# Altium footprint library burr-brown (2).PCBLIB: 61 footprints (part 2 of 4)
Each footprint in its own frame and in the unit in brackets; x right, y up, seen from the top. Pads: shape width x height; smd on the part's side, far side on the other; paste and mask are expansions set on the pad; w line width, h text height; cw(c..) or ccw(c..) is an arc to the next point about the centre after c.
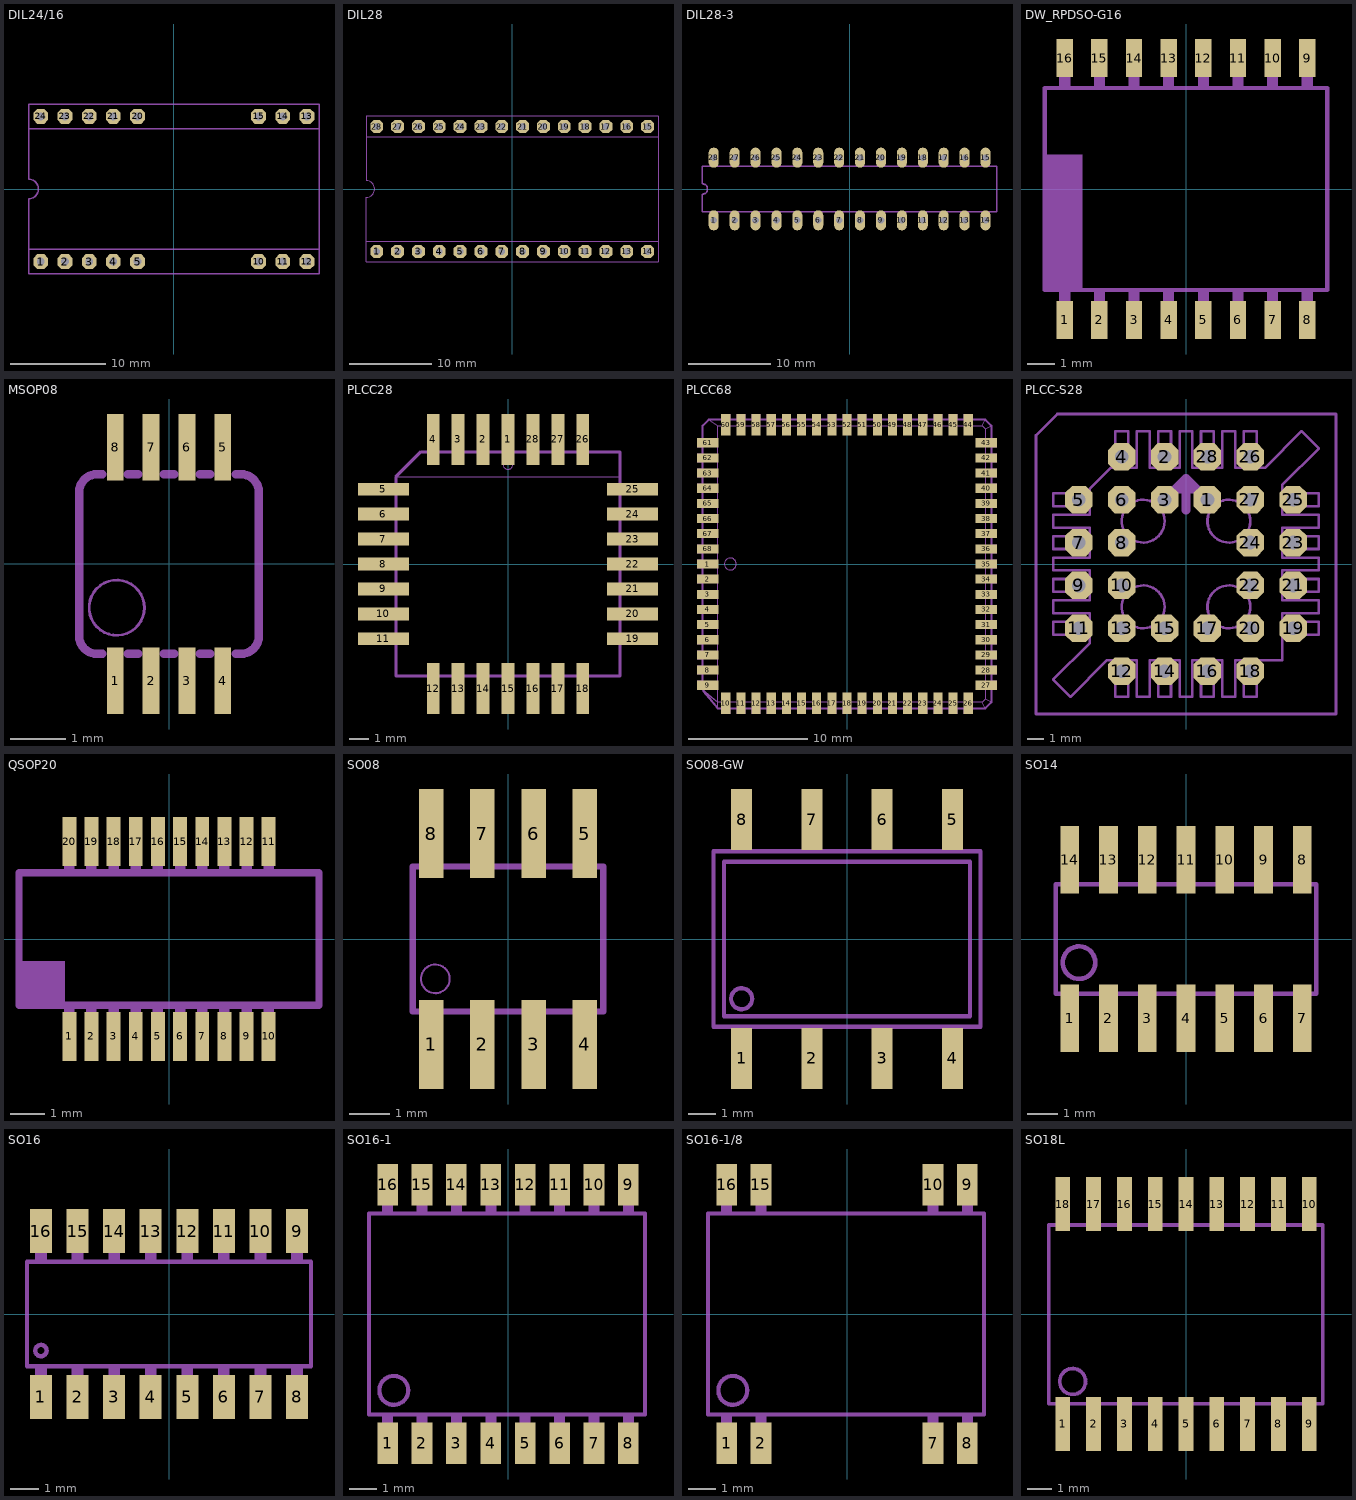
[diagram p1: the footprints below, top view; thin cyan lines are the x and y axes]

## DIL24/16 [mil]
pads (16):
  oct 61x61 hole 32: 1(-550,-300) 2(-450,-300) 3(-350,-300) 4(-250,-300) 5(-150,-300) 10(350,-300) 11(450,-300) 12(550,-300) 13(550,300) 14(450,300) 15(350,300) 20(-150,300) 21(-250,300) 22(-350,300) 23(-450,300) 24(-550,300)
Mechanical 2:
  lines w6: -600,-250 -600,-350 600,-350 600,-250 ; -600,-250 -600,-40 ccw(c-600,0) -600,40 -600,250 ; -600,-250 600,-250 ; -600,250 -600,350 600,350 600,250 ; -600,250 600,250 ; 600,-250 600,250

## DIL28 [mil]
pads (28):
  oct 61x61 hole 32: 1(-650,-300) 2(-550,-300) 3(-450,-300) 4(-350,-300) 5(-250,-300) 6(-150,-300) 7(-50,-300) 8(50,-300) 9(150,-300) 10(250,-300) 11(350,-300) 12(450,-300) 13(550,-300) 14(650,-300) 15(650,300) 16(550,300) 17(450,300) 18(350,300) 19(250,300) 20(150,300) 21(50,300) 22(-50,300) 23(-150,300) 24(-250,300) 25(-350,300) 26(-450,300) 27(-550,300) 28(-650,300)
Mechanical 2:
  lines w6: -700,-250 -700,-350 700,-350 700,-250 ; -700,-250 700,-250 ; -700,-250 -700,-40 ccw(c-700,0) -700,40 -700,250 ; -700,250 -700,350 700,350 700,250 ; -700,250 700,250 ; 700,-250 700,250

## DIL28-3 [mil]
pads (28):
  oval 48x96 hole 32: 1(-650,-150) 2(-550,-150) 3(-450,-150) 4(-350,-150) 5(-250,-150) 6(-150,-150) 7(-50,-150) 8(50,-150) 9(150,-150) 10(250,-150) 11(350,-150) 12(450,-150) 13(550,-150) 14(650,-150) 15(650,150) 16(550,150) 17(450,150) 18(350,150) 19(250,150) 20(150,150) 21(50,150) 22(-50,150) 23(-150,150) 24(-250,150) 25(-350,150) 26(-450,150) 27(-550,150) 28(-650,150)
Mechanical 2:
  lines w6: -705,-110 -705,-25 ccw(c-705,0) -705,25 -705,110 705,110 705,-110 -705,-110

## DW_RPDSO-G16 [mil]
pads (16):
  rect 23.62x55.12 smd: 1(-175,-188.98) 2(-125,-188.98) 3(-75,-188.98) 4(-25,-188.98) 5(25,-188.98) 6(75,-188.98) 7(125,-188.98) 8(175,-188.98) 9(175,188.98) 10(125,188.98) 11(75,188.98) 12(25,188.98) 13(-25,188.98) 14(-75,188.98) 15(-125,188.98) 16(-175,188.98)
Mechanical 2:
  rectangle: -203.74,-144.69 -149.61,50
  lines w6: -203.94,-145.98 203.94,-145.98 203.94,145.98 -203.94,145.98 -203.94,-145.98
Mechanical 18:
  rectangle: 167,-209.45 183,-148
  rectangle: 117,-209.45 133,-148
  rectangle: 67,-209.45 83,-148
  rectangle: 17,-209.45 33,-148
  rectangle: -33,-209.45 -17,-148
  rectangle: -83,-209.45 -67,-148
  rectangle: -133,-209.45 -117,-148
  rectangle: -183,-209.45 -167,-148
  region: -167,209.45 -183,209.45 -183,148 -167,148
  region: -117,209.45 -133,209.45 -133,148 -117,148
  region: -67,209.45 -83,209.45 -83,148 -67,148
  region: -17,209.45 -33,209.45 -33,148 -17,148
  region: 33,209.45 17,209.45 17,148 33,148
  region: 83,209.45 67,209.45 67,148 83,148
  region: 133,209.45 117,209.45 117,148 133,148
  region: 183,209.45 167,209.45 167,148 183,148

## MSOP08 [mil]
pads (8):
  rect 11.81x47.24 smd: 1(-38.43,-83.19) 2(-12.83,-83.19) 3(12.76,-83.19) 4(38.35,-83.19) 5(38.35,83.15) 6(12.76,83.15) 7(-12.83,83.15) 8(-38.43,83.15)
Mechanical 2:
  circle w2: c-37.23,-31.13 r19.69
  lines w6: -52.8,-64.02 -47.4,-64.02 ; -51.22,-64.02 cw(c-51.22,-51.22) -64.02,-51.22 -64.02,51.14 cw(c-51.22,51.14) -51.22,63.94 -47.4,63.94 ; -29.41,-64.02 -21.81,-64.02 ; -29.41,63.94 -21.81,63.94 ; -3.82,-64.02 3.78,-64.02 ; -3.82,63.94 3.78,63.94 ; 21.77,-64.02 29.37,-64.02 ; 21.77,63.94 29.37,63.94 ; 47.36,-64.02 51.14,-64.02 ccw(c51.14,-51.22) 63.94,-51.22 63.94,51.14 ccw(c51.14,51.14) 51.14,63.94 47.36,63.94
Mechanical 18:
  rectangle: -43.21,63.95 -33.61,92.74
  rectangle: -17.62,63.95 -8.02,92.74
  rectangle: 7.97,63.95 17.57,92.74
  rectangle: 33.56,63.95 43.16,92.74
  rectangle: -43.21,-92.79 -33.61,-64
  rectangle: -17.62,-92.79 -8.02,-64
  rectangle: 7.97,-92.79 17.57,-64
  rectangle: 33.56,-92.79 43.16,-64

## PLCC28 [mil]
pads (28):
  rect 26x102 smd: 1(0,250) 2(-50,250) 3(-100,250) 4(-150,250) 12(-150,-250) 13(-100,-250) 14(-50,-250) 15(0,-250) 16(50,-250) 17(100,-250) 18(150,-250) 26(150,250) 27(100,250) 28(50,250)
  rect 102x26 smd: 5(-250,150) 6(-250,100) 7(-250,50) 8(-250,0) 9(-250,-50) 10(-250,-100) 11(-250,-150) 19(250,-150) 20(250,-100) 21(250,-50) 22(250,0) 23(250,50) 24(250,100) 25(250,150)
Mechanical 2:
  lines w2: -225,175 225,175
  lines w6: -225,-165 -225,-225 -165,-225 ; -225,-135 -225,-115 ; -225,-85 -225,-65 ; -225,-35 -225,-15 ; -225,15 -225,35 ; -225,65 -225,85 ; -225,115 -225,135 ; -225,165 -225,175 -175,225 -165,225 ; -135,-225 -115,-225 ; -135,225 -115,225 ; -85,-225 -65,-225 ; -85,225 -65,225 ; -35,-225 -15,-225 ; -35,225 -15,225 ; 15,-225 35,-225 ; 15,225 35,225 ; 65,-225 85,-225 ; 65,225 85,225 ; 115,-225 135,-225 ; 115,225 135,225 ; 165,-225 225,-225 225,-165 ; 165,225 225,225 225,175 225,165 ; 225,-135 225,-115 ; 225,-85 225,-65 ; 225,-35 225,-15 ; 225,15 225,35 ; 225,65 225,85 ; 225,115 225,135
Mechanical 6:
  circle w2: c0,200 r10
  rectangle: 225,90 250,110
  rectangle: 225,140 250,160
  rectangle: 225,-160 250,-140
  rectangle: 225,-110 250,-90
  rectangle: 225,-60 250,-40
  rectangle: 225,-10 250,10
  rectangle: 225,40 250,60
  rectangle: 90,-250 110,-225
  rectangle: 140,-250 160,-225
  rectangle: -160,-250 -140,-225
  rectangle: -110,-250 -90,-225
  rectangle: -60,-250 -40,-225
  rectangle: -10,-250 10,-225
  rectangle: 40,-250 60,-225
  rectangle: -250,-110 -225,-90
  rectangle: -250,-160 -225,-140
  rectangle: -250,140 -225,160
  rectangle: -250,90 -225,110
  rectangle: -250,40 -225,60
  rectangle: -250,-10 -225,10
  rectangle: -250,-60 -225,-40
  rectangle: -110,225 -90,250
  rectangle: -160,225 -140,250
  rectangle: 140,225 160,250
  rectangle: 90,225 110,250
  rectangle: 40,225 60,250
  rectangle: -10,225 10,250
  rectangle: -60,225 -40,250
  lines w6: -225,-165 -225,-135 ; -225,-115 -225,-85 ; -225,-65 -225,-35 ; -225,-15 -225,15 ; -225,35 -225,65 ; -225,85 -225,115 ; -225,135 -225,165 ; -165,-225 -135,-225 ; -165,225 -135,225 ; -115,-225 -85,-225 ; -115,225 -85,225 ; -65,-225 -35,-225 ; -65,225 -35,225 ; -15,-225 15,-225 ; -15,225 15,225 ; 35,-225 65,-225 ; 35,225 65,225 ; 85,-225 115,-225 ; 85,225 115,225 ; 135,-225 165,-225 ; 135,225 165,225 ; 225,-165 225,-135 ; 225,-115 225,-85 ; 225,-65 225,-35 ; 225,-15 225,15 ; 225,35 225,65 ; 225,85 225,115 ; 225,135 225,165

## PLCC68 [mil]
pads (68):
  rect 70.87x29.92 smd: 1(-459.45,0) 2(-459.45,-50) 3(-459.45,-100) 4(-459.45,-150) 5(-459.45,-200) 6(-459.45,-250) 7(-459.45,-300) 8(-459.45,-350) 9(-459.45,-400) 27(459.45,-400) 28(459.45,-350) 29(459.45,-300) 30(459.45,-250) 31(459.45,-200) 32(459.45,-150) 33(459.45,-100) 34(459.45,-50) 35(459.45,0) 36(459.45,50) 37(459.45,100) 38(459.45,150) 39(459.45,200) 40(459.45,250) 41(459.45,300) 42(459.45,350) 43(459.45,400) 61(-459.45,400) 62(-459.45,350) 63(-459.45,300) 64(-459.45,250) 65(-459.45,200) 66(-459.45,150) 67(-459.45,100) 68(-459.45,50)
  rect 29.92x70.87 smd: 10(-400,-459.45) 11(-350,-459.45) 12(-300,-459.45) 13(-250,-459.45) 14(-200,-459.45) 15(-150,-459.45) 16(-100,-459.45) 17(-50,-459.45) 18(0,-459.45) 19(50,-459.45) 20(100,-459.45) 21(150,-459.45) 22(200,-459.45) 23(250,-459.45) 24(300,-459.45) 25(350,-459.45) 26(400,-459.45) 44(400,459.45) 45(350,459.45) 46(300,459.45) 47(250,459.45) 48(200,459.45) 49(150,459.45) 50(100,459.45) 51(50,459.45) 52(0,459.45) 53(-50,459.45) 54(-100,459.45) 55(-150,459.45) 56(-200,459.45) 57(-250,459.45) 58(-300,459.45) 59(-350,459.45) 60(-400,459.45)
Mechanical 2:
  drawing of 157 lines, arcs and shapes, not listed
Mechanical 18:
  circle w2: c-384.65,0 r19.69
  rectangle: -114.96,476.38 -85.04,494.88
  rectangle: -64.96,476.38 -35.04,494.88
  rectangle: -14.96,476.38 14.96,494.88
  rectangle: 35.04,476.38 64.96,494.88
  rectangle: 85.04,476.38 114.96,494.88
  rectangle: 135.04,476.38 164.96,494.88
  rectangle: 185.04,476.38 214.96,494.88
  rectangle: 476.38,135.04 494.88,164.96
  rectangle: 476.38,85.04 494.88,114.96
  rectangle: 476.38,35.04 494.88,64.96
  rectangle: 476.38,-14.96 494.88,14.96
  rectangle: 476.38,-64.96 494.88,-35.04
  rectangle: 476.38,-114.96 494.88,-85.04
  rectangle: 476.38,-414.96 494.88,-385.04
  rectangle: -214.96,-494.88 -185.04,-476.38
  rectangle: -164.96,-494.88 -135.04,-476.38
  rectangle: -114.96,-494.88 -85.04,-476.38
  rectangle: -64.96,-494.88 -35.04,-476.38
  rectangle: -14.96,-494.88 14.96,-476.38
  rectangle: 35.04,-494.88 64.96,-476.38
  rectangle: 85.04,-494.88 114.96,-476.38
  rectangle: -494.88,135.04 -476.38,164.96
  rectangle: -494.88,85.04 -476.38,114.96
  rectangle: -494.88,35.04 -476.38,64.96
  rectangle: -494.88,-14.96 -476.38,14.96
  rectangle: -494.88,-64.96 -476.38,-35.04
  rectangle: -494.88,-114.96 -476.38,-85.04
  rectangle: -494.88,-414.96 -476.38,-385.04
  rectangle: -164.96,476.38 -135.04,494.88
  rectangle: -214.96,476.38 -185.04,494.88
  rectangle: 135.04,-494.88 164.96,-476.38
  rectangle: 185.04,-494.88 214.96,-476.38
  rectangle: -494.88,185.04 -476.38,214.96
  rectangle: -494.88,235.04 -476.38,264.96
  rectangle: -494.88,-164.96 -476.38,-135.04
  rectangle: -494.88,-214.96 -476.38,-185.04
  rectangle: 235.04,-494.88 264.96,-476.38
  rectangle: 476.38,-214.96 494.88,-185.04
  rectangle: 476.38,-164.96 494.88,-135.04
  rectangle: 476.38,185.04 494.88,214.96
  rectangle: 476.38,235.04 494.88,264.96
  rectangle: 235.04,476.38 264.96,494.88
  rectangle: -264.96,476.38 -235.04,494.88
  rectangle: -264.96,-494.88 -235.04,-476.38
  rectangle: 476.38,-264.96 494.88,-235.04
  rectangle: 476.38,-314.96 494.88,-285.04
  rectangle: 476.38,-364.96 494.88,-335.04
  rectangle: 285.04,-494.88 314.96,-476.38
  rectangle: 335.04,-494.88 364.96,-476.38
  rectangle: 385.04,-494.88 414.96,-476.38
  rectangle: -314.96,-494.88 -285.04,-476.38
  rectangle: -364.96,-494.88 -335.04,-476.38
  rectangle: -414.96,-494.88 -385.04,-476.38
  rectangle: -494.88,-264.96 -476.38,-235.04
  rectangle: -494.88,-314.96 -476.38,-285.04
  rectangle: -494.88,-364.96 -476.38,-335.04
  rectangle: -314.96,476.38 -285.04,494.88
  rectangle: -364.96,476.38 -335.04,494.88
  rectangle: -414.96,476.38 -385.04,494.88
  rectangle: -494.88,285.04 -476.38,314.96
  rectangle: -494.88,335.04 -476.38,364.96
  rectangle: -494.88,385.04 -476.38,414.96
  rectangle: 285.04,476.38 314.96,494.88
  rectangle: 335.04,476.38 364.96,494.88
  rectangle: 385.04,476.38 414.96,494.88
  rectangle: 476.38,285.04 494.88,314.96
  rectangle: 476.38,335.04 494.88,364.96
  rectangle: 476.38,385.04 494.88,414.96
  lines w2: -476.38,-414.96 -427.17,-456.69 ; -456.69,476.38 -427.17,456.69 ; -427.17,-476.38 -427.17,-456.69 ; 456.69,-476.38 446.85,-456.69 ; 456.69,476.38 446.85,456.69 ; 476.38,-456.69 456.69,-446.85 ; 476.38,456.69 456.69,446.85 ; -427.17,-456.69 446.85,-456.69 ; -427.17,-456.69 -427.17,456.69 ; -427.17,456.69 446.85,456.69 ; 446.85,-456.69 456.69,-446.85 ; 446.85,456.69 456.69,446.85 ; 456.69,-446.85 456.69,446.85
  lines w6: -476.38,-414.96 -427.17,-476.38 456.69,-476.38 476.38,-456.69 476.38,456.69 456.69,476.38 -456.69,476.38 -476.38,456.69 -476.38,-414.96

## PLCC-S28 [mil]
pads (28):
  oct 63.9x63.9 hole 32: 1(50,150) 2(-50,250) 3(-50,150) 4(-150,250) 5(-250,150) 6(-150,150) 7(-250,50) 8(-150,50) 9(-250,-50) 10(-150,-50) 11(-250,-150) 12(-150,-250) 13(-150,-150) 14(-50,-250) 15(-50,-150) 16(50,-250) 17(50,-150) 18(150,-250) 19(250,-150) 20(150,-150) 21(250,-50) 22(150,-50) 23(250,50) 24(150,50) 25(250,150) 26(150,250) 27(150,150) 28(50,250)
Mechanical 2:
  circle w6: c-100,100 r50
  circle w6: c100,100 r50
  circle w6: c-100,-100 r50
  circle w6: c100,-100 r50
  lines w6: -350,-350 -350,300 -300,350 350,350 350,-350 -350,-350
  lines w20: 0,125 0,200 ; 0,200 25,175 -25,175 0,200
Mechanical 6:
  lines w6: -310,-270 -270,-310 -185,-225 -165,-225 -165,-310 -135,-310 -135,-225 -115,-225 -115,-310 -85,-310 -85,-225 -65,-225 -65,-310 -35,-310 -35,-225 -15,-225 -15,-310 15,-310 15,-225 35,-225 35,-310 65,-310 65,-225 85,-225 85,-310 115,-310 115,-225 135,-225 135,-310 165,-310 165,-225 225,-225 225,-165 310,-165 310,-135 225,-135 225,-115 310,-115 310,-85 225,-85 225,-65 310,-65 310,-35 225,-35 225,-15 310,-15 310,15 225,15 225,35 310,35 310,65 225,65 225,85 310,85 310,115 225,115 225,135 310,135 310,165 225,165 225,185 310,270 270,310 185,225 165,225 165,310 135,310 135,225 115,225 115,310 85,310 85,225 65,225 65,310 35,310 35,225 15,225 15,310 -15,310 -15,225 -35,225 -35,310 -65,310 -65,225 -85,225 -85,310 -115,310 -115,225 -135,225 -135,310 -165,310 -165,225 -175,225 -225,175 -225,165 -310,165 -310,135 -225,135 -225,115 -310,115 -310,85 -225,85 -225,65 -310,65 -310,35 -225,35 -225,15 -310,15 -310,-15 -225,-15 -225,-35 -310,-35 -310,-65 -225,-65 -225,-85 -310,-85 -310,-115 -225,-115 -225,-135 -310,-135 -310,-165 -225,-165 -225,-185 -310,-270

## QSOP20 [mil]
pads (20):
  rect 15.75x55.12 smd: 1(-112.52,-110) 2(-87.52,-110) 3(-62.52,-110) 4(-37.52,-110) 5(-12.52,-110) 6(12.52,-110) 7(37.52,-110) 8(62.52,-110) 9(87.52,-110) 10(112.52,-110) 11(112.52,110) 12(87.52,110) 13(62.52,110) 14(37.52,110) 15(12.52,110) 16(-12.52,110) 17(-37.52,110) 18(-62.52,110) 19(-87.52,110) 20(-112.52,110)
Mechanical 2:
  lines w8: -169.29,-74.8 169.29,-74.8 169.29,74.8 -169.29,74.8 -169.29,-74.8
Mechanical 6:
  rectangle: -167.5,-75 -117.5,-25
Mechanical 18:
  rectangle: -118.41,-122.05 -106.59,-76.77
  rectangle: -93.41,-122.05 -81.59,-76.77
  rectangle: -68.41,-122.05 -56.59,-76.77
  rectangle: -43.41,-122.05 -31.59,-76.77
  rectangle: -18.41,-122.05 -6.59,-76.77
  rectangle: 6.59,-122.05 18.41,-76.77
  rectangle: 31.59,-122.05 43.41,-76.77
  rectangle: 56.59,-122.05 68.41,-76.77
  rectangle: 81.59,-122.05 93.41,-76.77
  rectangle: 106.59,-122.05 118.41,-76.77
  rectangle: 106.59,76.77 118.41,122.05
  rectangle: 81.59,76.77 93.41,122.05
  rectangle: 56.59,76.77 68.41,122.05
  rectangle: 31.59,76.77 43.41,122.05
  rectangle: 6.59,76.77 18.41,122.05
  rectangle: -18.41,76.77 -6.59,122.05
  rectangle: -43.41,76.77 -31.59,122.05
  rectangle: -68.41,76.77 -56.59,122.05
  rectangle: -93.41,76.77 -81.59,122.05
  rectangle: -118.41,76.77 -106.59,122.05

## SO08 [mil]
pads (8):
  rect 24x87 smd: 1(-75,-103) 2(-25,-103) 3(25,-103) 4(75,-103) 5(75,103) 6(25,103) 7(-25,103) 8(-75,103)
Mechanical 2:
  circle w2: c-71,-39 r14
  lines w6: -92.99,-70.98 -92.99,70.98 ; 92.99,-70.98 92.99,70.98
Mechanical 18:
  rectangle: -82,-113 -68,-73
  rectangle: -32,-113 -18,-73
  rectangle: 18,-113 32,-73
  rectangle: 68,-113 82,-73
  rectangle: -82,73 -68,113
  rectangle: -32,73 -18,113
  rectangle: 18,73 32,113
  rectangle: 68,73 82,113
  lines w6: -92.99,-70.98 92.99,-70.98 ; -92.99,70.98 92.99,70.98

## SO08-GW [mil]
pads (8):
  rect 30x87 smd: 1(-150,-170) 2(-50,-170) 3(50,-170) 4(150,-170) 5(150,170) 6(50,170) 7(-50,170) 8(-150,170)
Mechanical 2:
  circle w6: c-150,-85 r15
  lines w6: -170,-125 -190,-125 -190,125 -170,125 ; -130,-125 -70,-125 ; -130,125 -70,125 ; -30,-125 30,-125 ; -30,125 30,125 ; 70,-125 130,-125 ; 70,125 130,125 ; 170,-125 190,-125 190,125 170,125 ; -175,-110 175,-110 175,110 -175,110 -175,-110
Mechanical 18:
  rectangle: -160,-190 -140,-125
  rectangle: -60,-190 -40,-125
  rectangle: 40,-190 60,-125
  rectangle: 140,-190 160,-125
  rectangle: -160,125 -140,190
  rectangle: -60,125 -40,190
  rectangle: 40,125 60,190
  rectangle: 140,125 160,190
  lines w6: -170,-125 -130,-125 ; -170,125 -130,125 ; -70,-125 -30,-125 ; -70,125 -30,125 ; 30,-125 70,-125 ; 30,125 70,125 ; 130,-125 170,-125 ; 130,125 170,125

## SO14 [mil]
pads (14):
  rect 24x87 smd: 1(-150,-102.5) 2(-100,-102.5) 3(-50,-102.5) 4(0,-102.5) 5(50,-102.5) 6(100,-102.5) 7(150,-102.5) 8(150,102.5) 9(100,102.5) 10(50,102.5) 11(0,102.5) 12(-50,102.5) 13(-100,102.5) 14(-150,102.5)
Mechanical 2:
  circle w6: c-138,-30.5 r21
  lines w6: -167.99,-70.51 -167.99,70.51 ; 167.99,-70.51 167.99,70.51
Mechanical 18:
  rectangle: -157,72.5 -143,112.5
  rectangle: -107,72.5 -93,112.5
  rectangle: -57,72.5 -43,112.5
  rectangle: -7,72.5 7,112.5
  rectangle: 43,72.5 57,112.5
  rectangle: 93,72.5 107,112.5
  rectangle: 143,72.5 157,112.5
  rectangle: 143,-112.5 157,-72.5
  rectangle: 93,-112.5 107,-72.5
  rectangle: 43,-112.5 57,-72.5
  rectangle: -7,-112.5 7,-72.5
  rectangle: -57,-112.5 -43,-72.5
  rectangle: -107,-112.5 -93,-72.5
  rectangle: -157,-112.5 -143,-72.5
  lines w6: -167.99,-70.51 167.99,-70.51 ; -167.99,70.51 167.99,70.51

## SO16 [mil]
pads (16):
  rect 30x60 smd: 1(-175,-113.2) 2(-125,-113.2) 3(-75,-113.2) 4(-25,-113.2) 5(25,-113.2) 6(75,-113.2) 7(125,-113.2) 8(175,-113.2) 9(175,113.2) 10(125,113.2) 11(75,113.2) 12(25,113.2) 13(-25,113.2) 14(-75,113.2) 15(-125,113.2) 16(-175,113.2)
Mechanical 2:
  circle w6: c-175,-50 r7.76
  lines w6: -194.13,-71.18 194.09,-71.18 194.09,71.18 -194.13,71.18 -194.13,-71.18
Mechanical 18:
  rectangle: 167,73.2 183,122.05
  rectangle: 117,73.2 133,122.05
  rectangle: 67,73.2 83,122.05
  rectangle: 17,73.2 33,122.05
  rectangle: -33,73.2 -17,122.05
  rectangle: -83,73.2 -67,122.05
  rectangle: -133,73.2 -117,122.05
  rectangle: -183,73.2 -167,122.05
  rectangle: 167,-122.05 183,-73.2
  rectangle: 117,-122.05 133,-73.2
  rectangle: 67,-122.05 83,-73.2
  rectangle: 17,-122.05 33,-73.2
  rectangle: -33,-122.05 -17,-73.2
  rectangle: -83,-122.05 -67,-73.2
  rectangle: -133,-122.05 -117,-73.2
  rectangle: -183,-122.05 -167,-73.2

## SO16-1 [mil]
pads (16):
  rect 30x60 smd: 1(-175,-188) 2(-125,-188) 3(-75,-188) 4(-25,-188) 5(25,-188) 6(75,-188) 7(125,-188) 8(175,-188) 9(175,188) 10(125,188) 11(75,188) 12(25,188) 13(-25,188) 14(-75,188) 15(-125,188) 16(-175,188)
Mechanical 2:
  circle w6: c-166,-111 r21
  lines w6: -202.01,-145.98 199.02,-145.98 199.02,145.98 -202.01,145.98 -202.01,-145.98
Mechanical 18:
  rectangle: 167,148 183,200
  rectangle: 117,148 133,200
  rectangle: 67,148 83,200
  rectangle: 17,148 33,200
  rectangle: -33,148 -17,200
  rectangle: -83,148 -67,200
  rectangle: -133,148 -117,200
  rectangle: -183,148 -167,200
  rectangle: 167,-200 183,-148
  rectangle: 117,-200 133,-148
  rectangle: 67,-200 83,-148
  rectangle: 17,-200 33,-148
  rectangle: -33,-200 -17,-148
  rectangle: -83,-200 -67,-148
  rectangle: -133,-200 -117,-148
  rectangle: -183,-200 -167,-148

## SO16-1/8 [mil]
pads (8):
  rect 30x60 smd: 1(-175,-188) 2(-125,-188) 7(125,-188) 8(175,-188) 9(175,188) 10(125,188) 15(-125,188) 16(-175,188)
Mechanical 2:
  circle w6: c-166,-111 r21
  lines w6: -202.01,-145.94 199.02,-145.98 199.02,146.1 -202.01,146.1 -202.01,-145.94
Mechanical 18:
  rectangle: 167,148 183,200
  rectangle: 117,148 133,200
  rectangle: -133,148 -117,200
  rectangle: -183,148 -167,200
  rectangle: 167,-200 183,-148
  rectangle: 117,-200 133,-148
  rectangle: -133,-200 -117,-148
  rectangle: -183,-200 -167,-148

## SO18L [mil]
pads (18):
  rect 24x87 smd: 1(-200,-178.5) 2(-150,-178.5) 3(-100,-178.5) 4(-50,-178.5) 5(0,-178.5) 6(50,-178.5) 7(100,-178.5) 8(150,-178.5) 9(200,-178.5) 10(200,178.5) 11(150,178.5) 12(100,178.5) 13(50,178.5) 14(0,178.5) 15(-50,178.5) 16(-100,178.5) 17(-150,178.5) 18(-200,178.5)
Mechanical 2:
  circle w6: c-184,-109.5 r21
  lines w6: -222.99,-145.51 -222.99,144.49 ; 222.01,-145.51 222.01,144.49
Mechanical 18:
  rectangle: 192,146.5 208,199.5
  rectangle: 142,146.5 158,199.5
  rectangle: 92,146.5 108,199.5
  rectangle: 42,146.5 58,199.5
  rectangle: -8,146.5 8,199.5
  rectangle: -58,146.5 -42,199.5
  rectangle: -108,146.5 -92,199.5
  rectangle: -158,146.5 -142,199.5
  rectangle: -208,146.5 -192,199.5
  rectangle: -208,-200.5 -192,-147.5
  rectangle: -158,-200.5 -142,-147.5
  rectangle: -108,-200.5 -92,-147.5
  rectangle: -58,-200.5 -42,-147.5
  rectangle: -8,-200.5 8,-147.5
  rectangle: 42,-200.5 58,-147.5
  rectangle: 92,-200.5 108,-147.5
  rectangle: 142,-200.5 158,-147.5
  rectangle: 192,-200.5 208,-147.5
  lines w6: -222.99,-145.51 222.01,-145.51 ; -222.99,144.49 222.01,144.49